# EAGLE library part RM3316-XSNI-T (library flync)
Data Flash
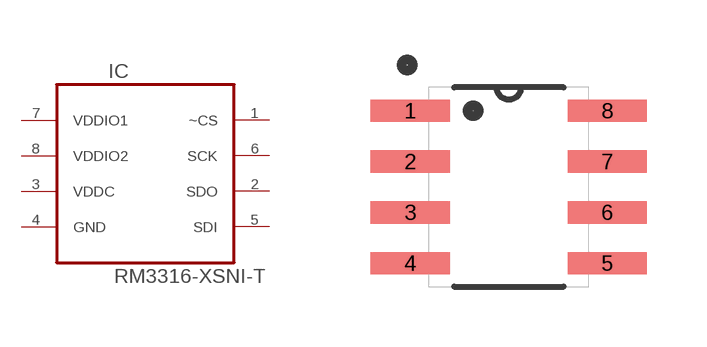
[diagram p9: symbol with the pads of SOIC127P600X175-8N; footprint SOIC127P600X175-8N]

Designator prefix IC

## RM3316-XSNI-T (AVAILABILITY: Unavailable; DESCRIPTION: RM3316-XSNI-T 256 kb CBRAM - SOIC-8 _150-mil_; MF: Adesto; MP: RM3316-XSNI-T; PACKAGE: SOIC-8 Adesto Technologies; PRICE: None)  [SOIC127P600X175-8N]
1  ~CS  in
2  SDO  out
3  VDDC  pwr
4  GND  pas
5  SDI  in
6  SCK  in
7  VDDIO1  pwr
8  VDDIO2  pwr

## Footprint SOIC127P600X175-8N (pad centres in mm)
smd 1.981 x 0.559: 1 -2.464,1.905; 2 -2.464,0.635; 3 -2.464,-0.635; 4 -2.464,-1.905; 5 2.464,-1.905; 6 2.464,-0.635; 7 2.464,0.635; 8 2.464,1.905